# EAGLE library part ACZ11BR1E-15KQA1-12C (library ACZ11BR1E-15KQA1-12C)
Encoders INCR ENC, S, MECH, 12 PPR 12 DET, 5 Vdc, A/B, 2-bit, SW, 5 mm tbush 15 x 6 mm KQ shaft, horizontal Source: Datasheet
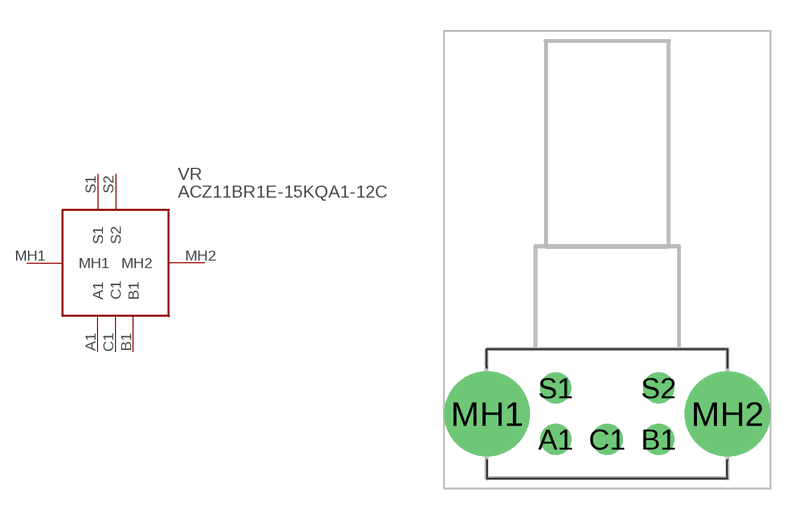
[diagram p0: symbol with the pads of ACZ11BR1E15KQA112C; footprint ACZ11BR1E15KQA112C]

Designator prefix VR

## ACZ11BR1E-15KQA1-12C (Description: Encoders INCR ENC, S, MECH, 12 PPR 12 DET, 5 Vdc, A/B, 2-bit, SW, 5 mm tbush 15 x 6 mm KQ shaft, horizontal; Height: 13.75mm; Manufacturer_Name: CUI Devices; Manufacturer_Part_Number: ACZ11BR1E-15KQA1-12C; Mouser_Part_Number: 490-ACZ1115KQA112C; Mouser_Price-Stock: https://www.mouser.co.uk/ProductDetail/CUI-Devices/ACZ11BR1E-15KQA1-12C?qs=WyjlAZoYn501aYQzKwgM%2Fw%3D%3D)  [ACZ11BR1E15KQA112C]
A1  A1
B1  B1
C1  C1
MH1  MH1
MH2  MH2
S1  S1
S2  S2

## Footprint ACZ11BR1E15KQA112C (pad centres in mm)
ACZ11BR1E-15KQA1-12C-1
drill 1 pad 1.5: A1 0,0; B1 5,0; C1 2.5,0; S1 0,2.5; S2 5,2.5
drill 2.766 pad 4.149: MH1 -3.35,1.25; MH2 8.35,1.25